# EAGLE library part 79109-48_S (library con-molex-milli-grid)
RECEPTACAL
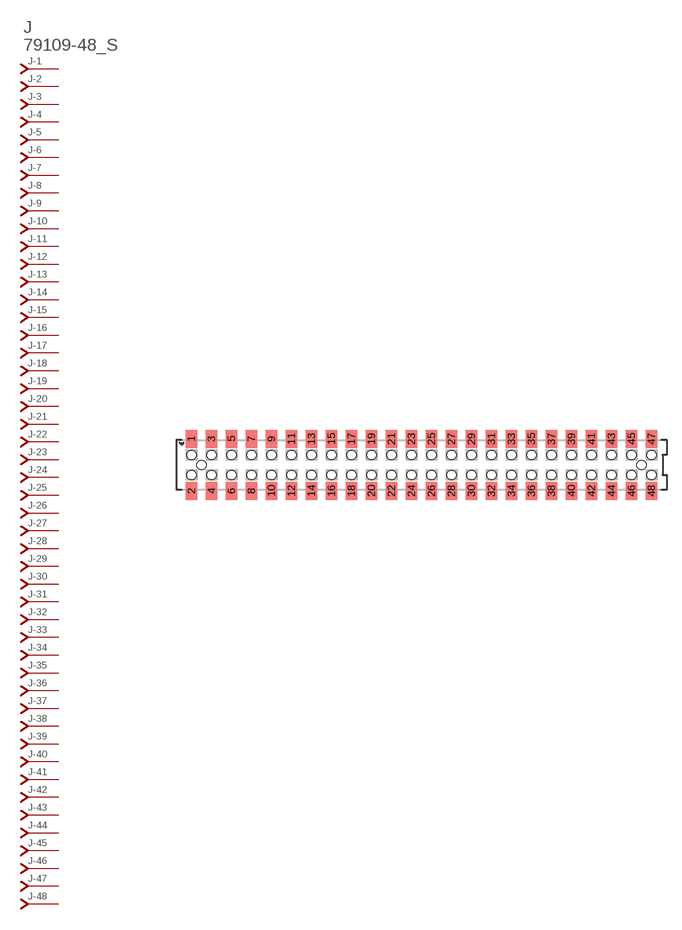
[diagram p280: symbol with the pads of 79109-48; footprint 79109-48]

Designator prefix J; gates -1=J-NV -2=J-N -3=J-N -4=J-N -5=J-N -6=J-N -7=J-N -8=J-N -9=J-N -10=J-N -11=J-N -12=J-N -13=J-N -14=J-N -15=J-N -16=J-N -17=J-N -18=J-N -19=J-N -20=J-N -21=J-N -22=J-N -23=J-N -24=J-N -25=J-N -26=J-N -27=J-N -28=J-N -29=J-N -30=J-N -31=J-N -32=J-N -33=J-N -34=J-N -35=J-N -36=J-N -37=J-N -38=J-N -39=J-N -40=J-N -41=J-N -42=J-N -43=J-N -44=J-N -45=J-N -46=J-N -47=J-N -48=J-N

## 79109-48_S  [79109-48]
1  -1:J  pas
2  -2:J  pas
3  -3:J  pas
4  -4:J  pas
5  -5:J  pas
6  -6:J  pas
7  -7:J  pas
8  -8:J  pas
9  -9:J  pas
10  -10:J  pas
11  -11:J  pas
12  -12:J  pas
13  -13:J  pas
14  -14:J  pas
15  -15:J  pas
16  -16:J  pas
17  -17:J  pas
18  -18:J  pas
19  -19:J  pas
20  -20:J  pas
21  -21:J  pas
22  -22:J  pas
23  -23:J  pas
24  -24:J  pas
25  -25:J  pas
26  -26:J  pas
27  -27:J  pas
28  -28:J  pas
29  -29:J  pas
30  -30:J  pas
31  -31:J  pas
32  -32:J  pas
33  -33:J  pas
34  -34:J  pas
35  -35:J  pas
36  -36:J  pas
37  -37:J  pas
38  -38:J  pas
39  -39:J  pas
40  -40:J  pas
41  -41:J  pas
42  -42:J  pas
43  -43:J  pas
44  -44:J  pas
45  -45:J  pas
46  -46:J  pas
47  -47:J  pas
48  -48:J  pas

## Footprint 79109-48 (pad centres in mm)
RECEPTACAL SMD Dual Row, Vertical, Pass-Thru
smd 1.12 x 1.83: 1 -23,2.6; 2 -23,-2.6; 3 -21,2.6; 4 -21,-2.6; 5 -19,2.6; 6 -19,-2.6; 7 -17,2.6; 8 -17,-2.6; 9 -15,2.6; 10 -15,-2.6; 11 -13,2.6; 12 -13,-2.6; 13 -11,2.6; 14 -11,-2.6; 15 -9,2.6; 16 -9,-2.6; 17 -7,2.6; 18 -7,-2.6; 19 -5,2.6; 20 -5,-2.6; 21 -3,2.6; 22 -3,-2.6; 23 -1,2.6; 24 -1,-2.6; 25 1,2.6; 26 1,-2.6; 27 3,2.6; 28 3,-2.6; 29 5,2.6; 30 5,-2.6; 31 7,2.6; 32 7,-2.6; 33 9,2.6; 34 9,-2.6; 35 11,2.6; 36 11,-2.6; 37 13,2.6; 38 13,-2.6; 39 15,2.6; 40 15,-2.6; 41 17,2.6; 42 17,-2.6; 43 19,2.6; 44 19,-2.6; 45 21,2.6; 46 21,-2.6; 47 23,2.6; 48 23,-2.6
hole 0.914 at -22,0
hole 0.914 at -23,1
hole 0.914 at -23,-1
hole 0.914 at -21,-1
hole 0.914 at -21,1
hole 0.914 at -19,-1
hole 0.914 at -19,1
hole 0.914 at -17,1
hole 0.914 at -17,-1
hole 0.914 at -15,1
hole 0.914 at -15,-1
hole 0.914 at -13,1
hole 0.914 at -13,-1
hole 0.914 at -11,1
hole 0.914 at -11,-1
hole 0.914 at -9,-1
hole 0.914 at -9,1
hole 0.914 at -7,1
hole 0.914 at -7,-1
hole 0.914 at -5,1
hole 0.914 at -5,-1
hole 0.914 at -3,1
hole 0.914 at -3,-1
hole 0.914 at -1,-1
hole 0.914 at -1,1
hole 0.914 at 1,1
hole 0.914 at 3,1
hole 0.914 at 5,1
hole 0.914 at 1,-1
hole 0.914 at 3,-1
hole 0.914 at 5,-1
hole 0.914 at 7,-1
hole 0.914 at 9,-1
hole 0.914 at 11,-1
hole 0.914 at 13,-1
hole 0.914 at 15,-1
hole 0.914 at 7,1
hole 0.914 at 9,1
hole 0.914 at 11,1
hole 0.914 at 13,1
hole 0.914 at 15,1
hole 0.914 at 17,-1
hole 0.914 at 19,-1
hole 0.914 at 17,1
hole 0.914 at 19,1
hole 0.914 at 21,1
hole 0.914 at 23,1
hole 0.914 at 21,-1
hole 0.914 at 23,-1
hole 0.914 at 22,0